# EAGLE library part 16021ESYL (library #PaJa_displeje)
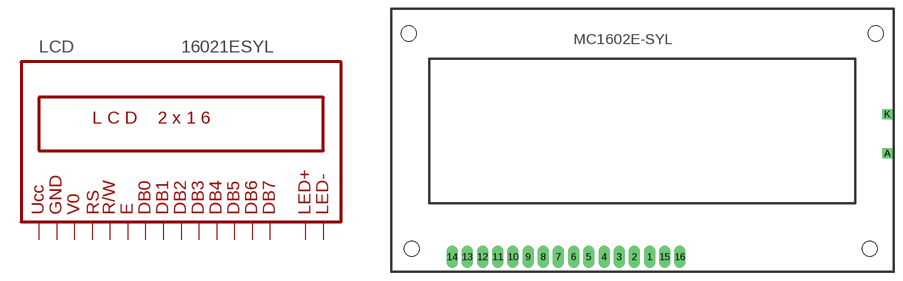
[diagram p6: symbol with the pads of LCD; footprint LCD]

Designator prefix LCD

## 16021ESYL  [LCD]
1  1
2  2
3  3
4  4
5  5
6  6
7  7
8  8
9  9
10  10
11  11
12  12
13  13  pwr
14  14  pwr
15  15  pwr
16  16  pwr

## Footprint LCD (pad centres in mm)
drill 0.813 pad 1.905 long: 1 43.18,2.54; 2 40.64,2.54; 3 38.1,2.54; 4 35.56,2.54; 5 33.02,2.54; 6 30.48,2.54; 7 27.94,2.54; 8 25.4,2.54; 9 22.86,2.54; 10 20.32,2.54; 11 17.78,2.54; 12 15.24,2.54; 13 12.7,2.54; 14 10.16,2.54; 15 45.72,2.54; 16 48.26,2.54
drill 0.813 pad 1.676 square: A 82.953,19.876; K 82.953,26.416
hole 2.54 at 3.4,3.9
hole 2.54 at 80,3.9
hole 2.54 at 2.9,39.9
hole 2.54 at 81,39.9